# EAGLE library part WD37C65B (library wd37c65b)
WD37C65B Floppy disk controller
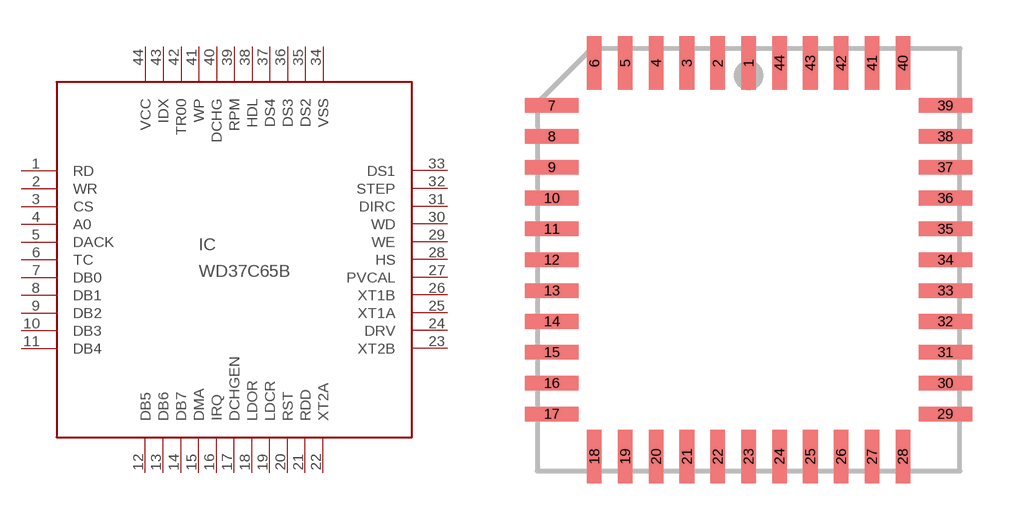
[diagram p0: symbol with the pads of PLCC44; footprint PLCC44]

Designator prefix IC

## WD37C65B  [PLCC44]
1  RD
2  WR
3  CS
4  A0
5  DACK
6  TC
7  DB0
8  DB1
9  DB2
10  DB3
11  DB4
12  DB5
13  DB6
14  DB7
15  DMA  in
16  IRQ  in
17  DCHGEN  in
18  LDOR
19  LDCR
20  RST
21  RDD
22  XT2A
23  XT2B
24  DRV
25  XT1A
26  XT1B
27  PVCAL
28  HS
29  WE
30  WD
31  DIRC
32  STEP
33  DS1
34  VSS
35  DS2
36  DS3
37  DS4
38  HDL
39  RPM
40  DCHG
41  WP  in
42  TR00
43  IDX
44  VCC

## Footprint PLCC44 (pad centres in mm)
PLASTIC LEADED CHIP CARRIER square
smd 0.6 x 2.2: 1 0,8.1; 2 -1.27,8.1; 3 -2.54,8.1; 4 -3.81,8.1; 5 -5.08,8.1; 6 -6.35,8.1; 18 -6.35,-8.1; 19 -5.08,-8.1; 20 -3.81,-8.1; 21 -2.54,-8.1; 22 -1.27,-8.1; 23 0,-8.1; 24 1.27,-8.1; 25 2.54,-8.1; 26 3.81,-8.1; 27 5.08,-8.1; 28 6.35,-8.1; 40 6.35,8.1; 41 5.08,8.1; 42 3.81,8.1; 43 2.54,8.1; 44 1.27,8.1
smd 2.2 x 0.6: 7 -8.1,6.35; 8 -8.1,5.08; 9 -8.1,3.81; 10 -8.1,2.54; 11 -8.1,1.27; 12 -8.1,0; 13 -8.1,-1.27; 14 -8.1,-2.54; 15 -8.1,-3.81; 16 -8.1,-5.08; 17 -8.1,-6.35; 29 8.1,-6.35; 30 8.1,-5.08; 31 8.1,-3.81; 32 8.1,-2.54; 33 8.1,-1.27; 34 8.1,0; 35 8.1,1.27; 36 8.1,2.54; 37 8.1,3.81; 38 8.1,5.08; 39 8.1,6.35